# Altium footprint library LTM4607IV#PBF.PcbLib: 1 footprints
Each footprint in its own frame and in the unit in brackets; x right, y up, seen from the top. Pads: shape width x height; smd on the part's side, far side on the other; paste and mask are expansions set on the pad; w line width, h text height; cw(c..) or ccw(c..) is an arc to the next point about the centre after c.
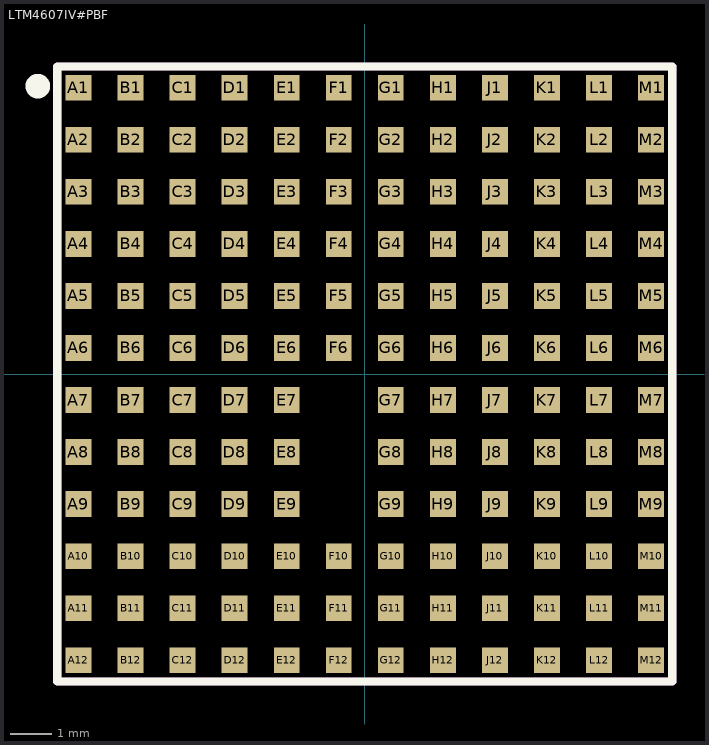
[diagram p0: the footprint, top view; thin cyan lines are the x and y axes]

## LTM4607IV#PBF [mil]
height 35.43
pads (141):
  rect 24.8x24.8 smd: A1(-275,275) A2(-275,225) A3(-275,175) A4(-275,125) A5(-275,75) A6(-275,25) A7(-275,-25) A8(-275,-75) A9(-275,-125) A10(-275,-175) A11(-275,-225) A12(-275,-275) B1(-225,275) B2(-225,225) B3(-225,175) B4(-225,125) B5(-225,75) B6(-225,25) B7(-225,-25) B8(-225,-75) B9(-225,-125) B10(-225,-175) B11(-225,-225) B12(-225,-275) C1(-175,275) C2(-175,225) C3(-175,175) C4(-175,125) C5(-175,75) C6(-175,25) C7(-175,-25) C8(-175,-75) C9(-175,-125) C10(-175,-175) C11(-175,-225) C12(-175,-275) D1(-125,275) D2(-125,225) D3(-125,175) D4(-125,125) D5(-125,75) D6(-125,25) D7(-125,-25) D8(-125,-75) D9(-125,-125) D10(-125,-175) D11(-125,-225) D12(-125,-275) E1(-75,275) E2(-75,225) E3(-75,175) E4(-75,125) E5(-75,75) E6(-75,25) E7(-75,-25) E8(-75,-75) E9(-75,-125) E10(-75,-175) E11(-75,-225) E12(-75,-275) F1(-25,275) F2(-25,225) F3(-25,175) F4(-25,125) F5(-25,75) F6(-25,25) F10(-25,-175) F11(-25,-225) F12(-25,-275) G1(25,275) G2(25,225) G3(25,175) G4(25,125) G5(25,75) G6(25,25) G7(25,-25) G8(25,-75) G9(25,-125) G10(25,-175) G11(25,-225) G12(25,-275) H1(75,275) H2(75,225) H3(75,175) H4(75,125) H5(75,75) H6(75,25) H7(75,-25) H8(75,-75) H9(75,-125) H10(75,-175) H11(75,-225) H12(75,-275) J1(125,275) J2(125,225) J3(125,175) J4(125,125) J5(125,75) J6(125,25) J7(125,-25) J8(125,-75) J9(125,-125) J10(125,-175) J11(125,-225) J12(125,-275) K1(175,275) K2(175,225) K3(175,175) K4(175,125) K5(175,75) K6(175,25) K7(175,-25) K8(175,-75) K9(175,-125) K10(175,-175) K11(175,-225) K12(175,-275) L1(225,275) L2(225,225) L3(225,175) L4(225,125) L5(225,75) L6(225,25) L7(225,-25) L8(225,-75) L9(225,-125) L10(225,-175) L11(225,-225) L12(225,-275) M1(275,275) M2(275,225) M3(275,175) M4(275,125) M5(275,75) M6(275,25) M7(275,-25) M8(275,-75) M9(275,-125) M10(275,-175) M11(275,-225) M12(275,-275)
Top Overlay:
  lines w7.87: -295.28,-295.28 -295.28,295.28 295.28,295.28 295.28,-295.28 -295.28,-295.28
  lines w19.68: -315.94,276.57 ccw(c-313.97,276.57) -312,276.57 ; -315.94,276.57 cw(c-313.97,276.57) -312,276.57 ; -315.94,276.57 ccw(c-313.97,276.57) -312,276.57
Top Assembly:
  lines w7.87: -295.28,-295.28 295.28,-295.28 295.28,295.28 -295.28,295.28 -295.28,-295.28
  text "'.Designator'" at 0,0 h27.56
Mechanical 7:
  lines w7.87: -276.97,275 cw(c-275,275) -273.03,275 ; -276.97,275 ccw(c-275,275) -273.03,275 ; -276.97,275 ccw(c-275,275) -273.03,275
3D body "LTM4607EV#PBF.stp": height 118.9, standoff 0, extent -295.28,-295.28 295.28,295.28